# Altium footprint library Components - 15.10.22 - 22.46.PcbLib: 1 footprints
Each footprint in its own frame and in the unit in brackets; x right, y up, seen from the top. Pads: shape width x height; smd on the part's side, far side on the other; paste and mask are expansions set on the pad; w line width, h text height; cw(c..) or ccw(c..) is an arc to the next point about the centre after c.
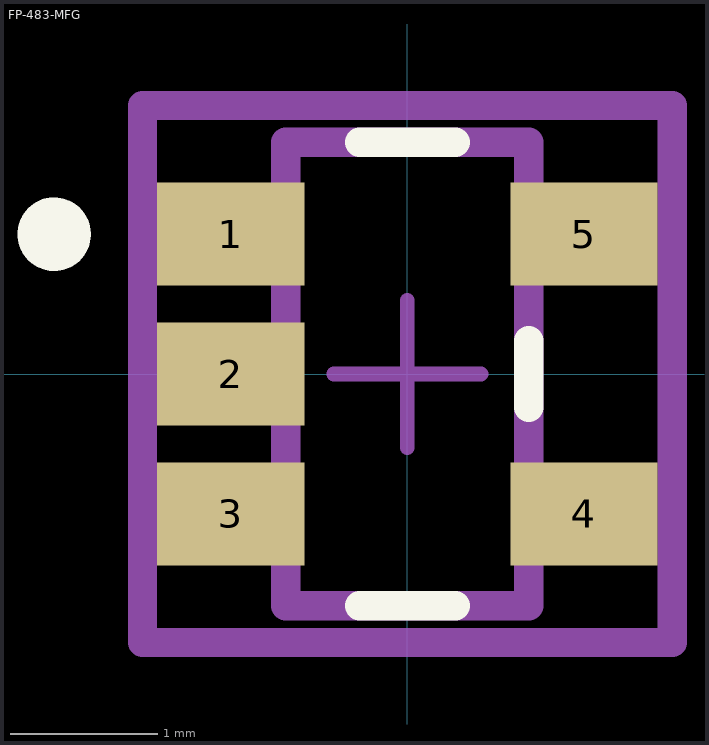
[diagram p0: the footprint, top view; thin cyan lines are the x and y axes]

## FP-483-MFG [mm]
pads (5):
  rect 1x0.7 smd paste+0 mask+0: 1(-1.2,0.95) 2(-1.2,0) 3(-1.2,-0.95) 4(1.2,-0.95) 5(1.2,0.95)
Top Overlay:
  circle w0.25: c-2.4,0.95 r0.125
  lines w0.2: -0.325,-1.575 0.325,-1.575 ; -0.325,1.575 0.325,1.575 ; 0.825,-0.225 0.825,0.225
Top Assembly:
  lines w0.2: -1.8,-1.825 1.8,-1.825 1.8,1.825 -1.8,1.825 -1.8,-1.825
  text ".Designator" at 0,-0.001 h1
Top 3D Body:
  lines w0.2: -0.825,-1.575 0.825,-1.575 0.825,1.575 -0.825,1.575 -0.825,-1.575
Top Courtyard:
  lines w0.2: -1.8,-1.825 1.8,-1.825 1.8,1.825 -1.8,1.825 -1.8,-1.825
Top Component Center:
  lines w0.1: -0.5,0 0.5,0 ; 0,-0.5 0,0.5
3D body "IC_ON_Semiconductor_NCP303LSN30T1G_eec.STEP": height 0.25, standoff 0, extent -1.8,-1.825 1.8,1.825